# Altium footprint library QQ2440V3封装库.PcbLib: 50 footprints (part 4 of 4)
Each footprint in its own frame and in the unit in brackets; x right, y up, seen from the top. Pads: shape width x height; smd on the part's side, far side on the other; paste and mask are expansions set on the pad; w line width, h text height; cw(c..) or ccw(c..) is an arc to the next point about the centre after c.
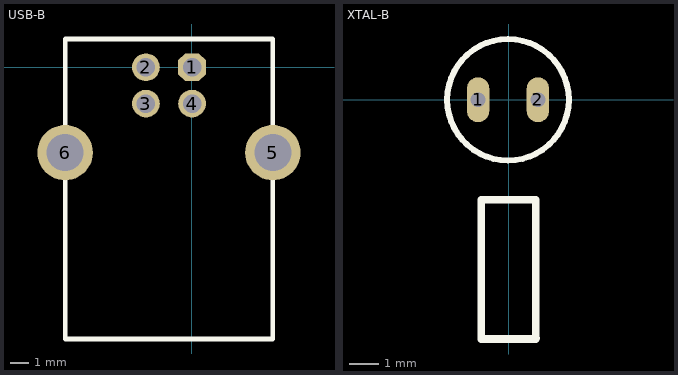
[diagram p3: the footprints below, top view; thin cyan lines are the x and y axes]

## USB-B [mil]
pads (6):
  oct 60x60 hole 40: 1(0.8,-0.16)
  round 60 hole 40: 2(-99.2,-0.16) 3(-99.2,-78.9) 4(0.8,-78.9)
  round 120 hole 80: 5(175.8,-185.2) 6(-274.2,-185.2)
TopOverlay:
  lines w10: -274.2,-588.9 175.8,-588.9 175.8,61.1 -274.2,61.1 -274.2,-588.9

## XTAL-B [mm]
pads (2):
  oval 0.75x1.5 hole 0.5: 1(-1.024,0.001) 2(0.976,0.001)
TopOverlay:
  circle w0.254: c-0.924,-7.999 r0
  circle w0.254: c0.901,-7.999 r0
  circle w0.2: c-0.024,0.001 r2.032
  circle w0.254: c-0.924,-3.349 r0
  circle w0.254: c0.901,-3.349 r0
  lines w0.254: 0.926,-7.974 0.901,-7.999 ; 0.901,-7.999 -0.924,-7.999 -0.924,-3.349 0.901,-3.349 0.901,-7.999